# Altium schematic symbol library Schlib1.SchLib: 390 symbols (part 4 of 5)
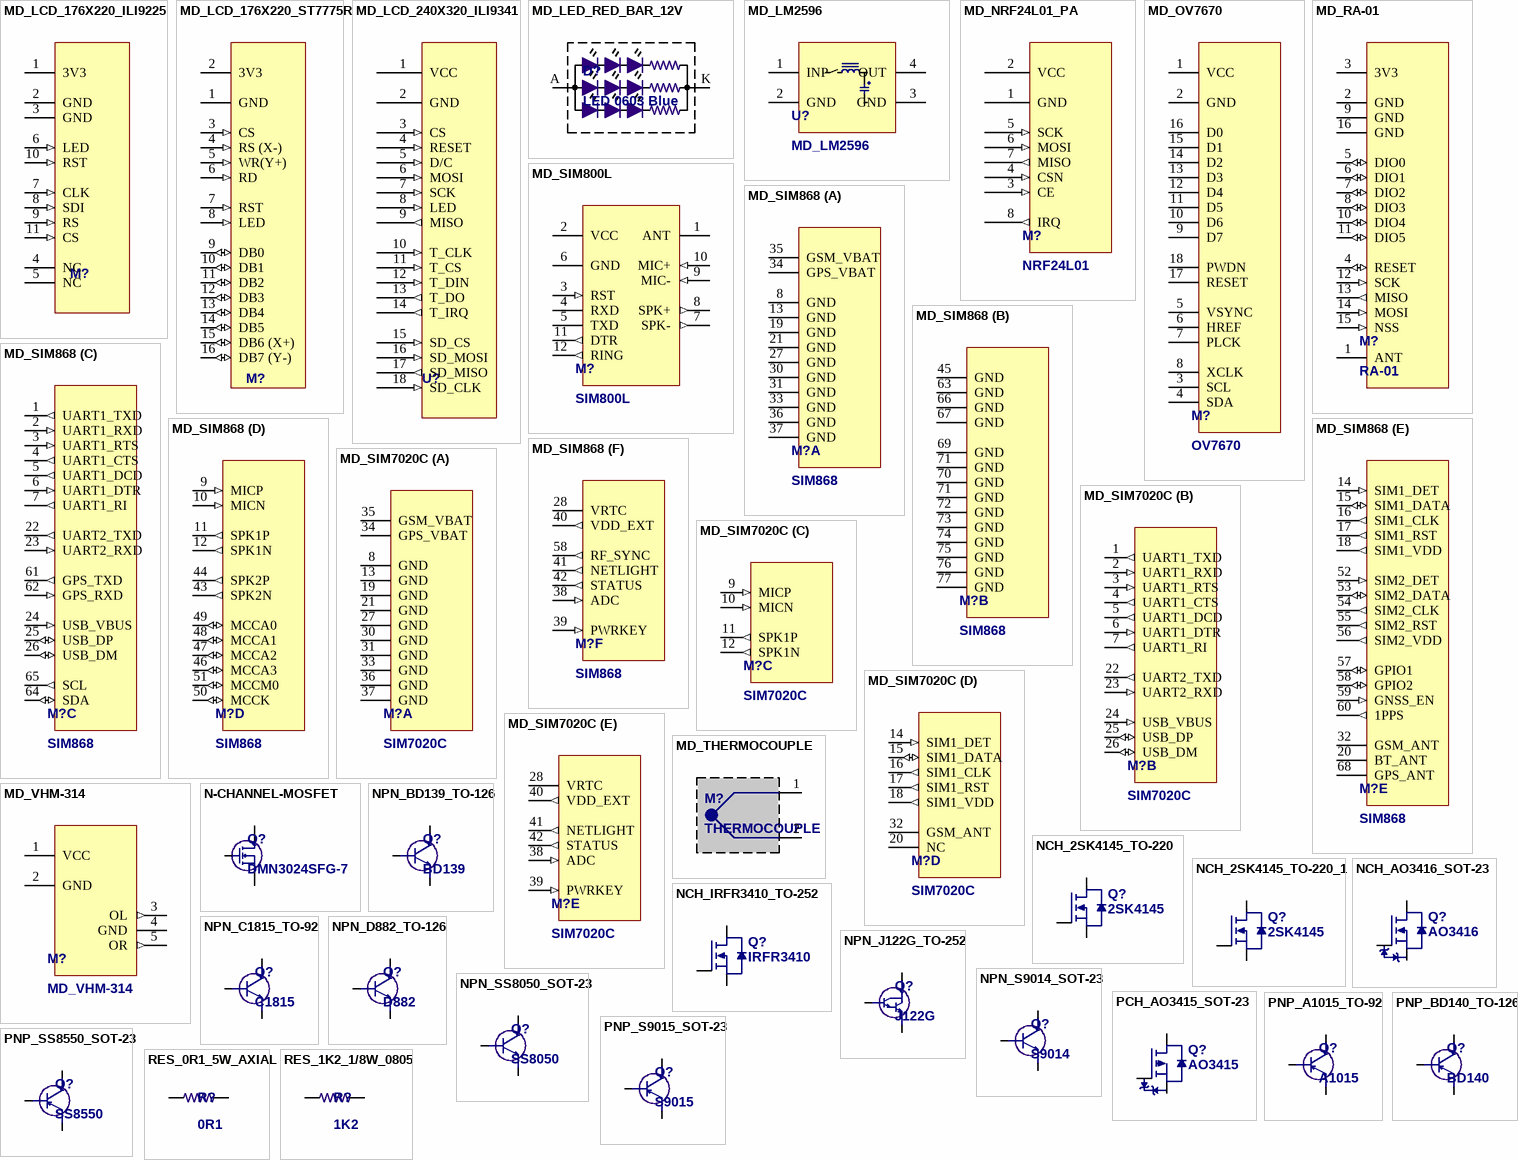
[diagram p13: symbols MD_LCD_176X220_ILI9225 to RES_1K2_1/8W_0805]

## MD_SIM868
designator M?, comment SIM868
Module SIM, SIM800 Series, GPRS, GPS, BT using 3.3V power supply.; Container: PCB-MODULE_BOX; Temperature Range: -40 to +125 degC; Price: 3.47; Package: SMD; Stock: 0; Label: SIM; Manufacturer: https://item.taobao.com/item.htm?spm=a21n57.1.0.0.2340523cFrXhFh&id=593822271983&ns=1&abbucket=14#detail; ComponentLink1Description: Datasheet; ComponentLink1URL: E:\NEW_DATA\ELECTRONIC_DOCUMENT\DATASHEET\SIM868_Series_Hardware_Design_V1.07_2.pdf
footprint MD_SIM868
part A pins: 8 GND (power), 13 GND (power), 19 GND (power), 21 GND (power), 27 GND (power), 30 GND (power), 31 GND (power), 33 GND (power), 34 GPS_VBAT (power), 35 GSM_VBAT (power), 36 GND (power), 37 GND (power)
part B pins: 45 GND (power), 63 GND (power), 66 GND (power), 67 GND (power), 69 GND (power), 70 GND (power), 71 GND (power), 71 GND (power), 72 GND (power), 73 GND (power), 74 GND (power), 75 GND (power), 76 GND (power), 77 GND (power)
part C pins: 1 UART1_TXD (out), 2 UART1_RXD (in), 3 UART1_RTS (in), 4 UART1_CTS (out), 5 UART1_DCD (out), 6 UART1_DTR (in), 7 UART1_RI (out), 22 UART2_TXD (out), 23 UART2_RXD (in), 24 USB_VBUS (in), 25 USB_DP (io), 26 USB_DM (io), 61 GPS_TXD (out), 62 GPS_RXD (in), 64 SDA (io), 65 SCL (out)
part D pins: 9 MICP (in), 10 MICN (in), 11 SPK1P (out), 12 SPK1N (out), 43 SPK2N (out), 44 SPK2P (out), 46 MCCA3 (io), 47 MCCA2 (io), 48 MCCA1 (io), 49 MCCA0 (io), 50 MCCK (io), 51 MCCM0 (io)
part E pins: 14 SIM1_DET (in), 15 SIM1_DATA (io), 16 SIM1_CLK (out), 17 SIM1_RST (out), 18 SIM1_VDD (out), 20 BT_ANT, 32 GSM_ANT, 52 SIM2_DET (in), 53 SIM2_DATA (io), 54 SIM2_CLK (out), 55 SIM2_RST (out), 56 SIM2_VDD (out), 57 GPIO1 (io), 58 GPIO2 (io), 59 GNSS_EN (in), 60 1PPS (out), 68 GPS_ANT
part F pins: 28 VRTC (power), 38 ADC (in), 39 PWRKEY (in), 40 VDD_EXT (out), 41 NETLIGHT (out), 42 STATUS (out), 58 RF_SYNC (out)

## MD_SIM7020C
designator M?, comment SIM7020C
Module SIM NB-IoT, SIM7020C Series, using 3.3V power supply.; Container: PCB-MODULE_BOX; Temperature Range: -40 to +125 degC; Price: 3.77; Package: SMD; Stock: 0; Label: SIM7020C; Manufacturer: https://item.taobao.com/item.htm?spm=a1z10.3-c-s.w4002-23047171155.10.5cf35989DLIjEr&id=633896990304; ComponentLink1Description: Datasheet; ComponentLink1URL: E:\NEW_DATA\ELECTRONIC_DOCUMENT\DATASHEET\SIM7020 Hardware Design_V1.02.pdf
footprint MD_SIM7020C
part A pins: 8 GND (power), 13 GND (power), 19 GND (power), 21 GND (power), 27 GND (power), 30 GND (power), 31 GND (power), 33 GND (power), 34 GPS_VBAT (power), 35 GSM_VBAT (power), 36 GND (power), 37 GND (power)
part B pins: 1 UART1_TXD (out), 2 UART1_RXD (in), 3 UART1_RTS (in), 4 UART1_CTS (out), 5 UART1_DCD (out), 6 UART1_DTR (in), 7 UART1_RI (out), 22 UART2_TXD (out), 23 UART2_RXD (in), 24 USB_VBUS (in), 25 USB_DP (io), 26 USB_DM (io)
part C pins: 9 MICP (in), 10 MICN (in), 11 SPK1P (out), 12 SPK1N (out)
part D pins: 14 SIM1_DET (in), 15 SIM1_DATA (io), 16 SIM1_CLK (out), 17 SIM1_RST (out), 18 SIM1_VDD (out), 20 NC, 32 GSM_ANT
part E pins: 28 VRTC (power), 38 ADC (in), 39 PWRKEY (in), 40 VDD_EXT (out), 41 NETLIGHT (out), 42 STATUS (out)

## MD_THERMOCOUPLE
designator M?, comment THERMOCOUPLE
Type K Thermocouple; Container: Bus_Wire_Box; Label: XH2.54; Price: 0.009; Package: TH; Stock: 14; Manufacturer: https://shopee.vn/%C4%90%E1%BA%A7u-n%E1%BB%91i-XH2.54-%C4%90%E1%BB%B1c-C%C3%A1i-C%C3%A1c-Lo%E1%BA%A1i-Header-XH2.54-lo%E1%BA%A1i-%C4%91%E1%BB%B1c-th%E1%BA%B3ng-i.151571719.3589152280?sp_atk=5406bfb8-bf62-463e-a06d-2acb89645f90&xptdk=5406bfb8-bf62-463e-a06d-2acb89645f90; Temperature Range: -25 to +85 degC
footprint Header 2P (CON2)
pins: 1, 2

## MD_VHM-314
designator M?
VHM-314 V2.0 V3.0 DIY Bluetooth Audio Receiver 4.1 5.0 MP3 Lossless Decoder; Container: PCB-MODULE_BOX; Package: TH; Stock: 0; Label: VHM-314; Manufacturer: https://shopee.vn/B%E1%BA%A3ng-M%E1%BA%A1ch-Nh%E1%BA%ADn-T%C3%ADn-Hi%E1%BB%87u-Bluetooth-5.0-mp3-VHM-314-i.471591389.19455524827?sp_atk=c1f9e1e3-bfa8-4392-b9bf-d9493af7f0ff&xptdk=c1f9e1e3-bfa8-4392-b9bf-d9493af7f0ff; Temperature Range: -25 to +85 degC; Price: 0.78
footprint VHM-314-M
pins: 1 VCC (power), 2 GND (power), 3 OL (out), 4 GND (power), 5 OR (out)

## N-CHANNEL-MOSFET
designator Q?, comment DMN3024SFG-7
N-Channel 30 V 7.5A (Ta) 900mW (Ta) Surface Mount PowerDI3333-8; Price: 0.009; Package: TH
footprint SOT23(123)
footprint SOT23(132)
footprint TO252
footprint TO252AA
pins: 1 G, 2 D, 3 S

## NCH_2SK4145_TO-220
designator Q?, comment 2SK4145
N-CHANNEL POWER MOSFET, Vds=60V, Id=84A, Rds=7m; Container: Transistors_Box; Label: N-CH; Price: 0.15; Package: SMD; Stock: 0; Manufacturer: https://item.taobao.com/item.htm?spm=a1z10.3-c-s.w4002-21047669632.10.3f9827e5NgGYbt&id=523832631224; Temperature Range: -55 to +170 degC; ComponentLink1Description: Datasheet; ComponentLink1URL: E:\NEW_DATA\ELECTRONIC_DOCUMENT\DATASHEET\K4145_NEC.pdf
pins: 1 G, 2 D, 3 S

## NCH_2SK4145_TO-220_1
designator Q?, comment 2SK4145
N-CHANNEL POWER MOSFET, Vds=60V, Id=84A, Rds=7m; Container: Transistors_Box; Label: N-CH; Price: 0.15; Package: SMD; Stock: 0; Manufacturer: https://item.taobao.com/item.htm?spm=a1z10.3-c-s.w4002-21047669632.10.3f9827e5NgGYbt&id=523832631224; Temperature Range: -55 to +170 degC; ComponentLink1Description: Datasheet; ComponentLink1URL: E:\NEW_DATA\ELECTRONIC_DOCUMENT\DATASHEET\K4145_NEC.pdf
pins: 1 G, 2 D, 3 S

## NCH_AO3416_SOT-23
designator Q?, comment AO3416
20V N-Channel MOSFET, Vds=20V, Id=6.5A, Rds=22m; Container: Transistors_Box; Label: N-CH; Price: 0.01; Package: SMD; Stock: 98; Manufacturer: https://shopee.vn/B%E1%BB%99-50-Linh-Ki%E1%BB%87n-%C4%90i%E1%BB%87n-T%E1%BB%AD-AO3400-AO3401-AO3402-AO3404-AO3406-AO3407-AO3415-AO3416-SOT23-i.778834786.17075451148?sp_atk=24d14775-b313-4f94-857d-9252dcf0cfe8&xptdk=24d14775-b313-4f94-857d-9252dcf0cfe8; Temperature Range: -55 to +150 degC; ComponentLink1Description: Datasheet; ComponentLink1URL: E:\NEW_DATA\ELECTRONIC_DOCUMENT\DATASHEET\ao3416.pdf
footprint SOT23(123)
pins: 1 G, 2 D, 3 S

## NCH_IRFR3410_TO-252
designator Q?, comment IRFR3410
HEXFET  Power MOSFET, Vds=100V, Id=31A, Rds=34m; Container: Transistors_Box; Label: N-CH; Price: 0.15; Package: SMD; Stock: 0; Manufacturer: https://item.taobao.com/item.htm?spm=a1z10.3-c-s.w4002-21047669632.10.3f9827e5NgGYbt&id=523832631224; Temperature Range: -55 to +170 degC; ComponentLink1Description: Datasheet; ComponentLink1URL: E:\NEW_DATA\ELECTRONIC_DOCUMENT\DATASHEET\Infineon-IRFR3410-DataSheet-v01_01-EN.pdf
footprint TO252
footprint TO252AA
simulation model FQD19N10L ($)
pins: 1 G, 2 D, 3 S

## NPN_BD139_TO-126
designator Q?, comment BD139
Complementary low voltage transistor, Vcb=80V, Ic=1.5A; Label: NPN; Container: Transistors_Box; ComponentLink1Description: Datasheet; ComponentLink1URL: E:\NEW_DATA\ELECTRONIC_DOCUMENT\DATASHEET\BD139-D.pdf; Package: TH; Manufacturer: https://shopee.vn/B%E1%BB%99-50-linh-ki%E1%BB%87n-%C4%91i%E1%BB%87n-t%E1%BB%AD-NPN-bd139-to-126-i.101758806.1644689850; Price: 0.04; Stock: 40; Temperature Range: -55 to +150 degC
footprint TO126
footprint TO126-10
footprint TO126-11
footprint TO126-RA400
footprint TO126-RA500
footprint TO126-RA600
footprint TO126-RB375
footprint TO126-RB400
footprint TO126-RB500
footprint TO126-RB600
simulation model QBD139 (Model Description)
pins: 1 E, 2 C, 3 B

## NPN_C1815_TO-92
designator Q?, comment C1815
Audio Frequency Amplifier & High / Frequency OSC, Vcb=50V, Ic=150mA; Container: Transistors_Box; Label: NPN; Price: 0.009; Package: TH; Stock: 200; Manufacturer: https://shopee.vn/1000-Linh-Ki%E1%BB%87n-B%C3%A1n-D%E1%BA%ABn-Ch%C3%ADnh-H%C3%A3ng-C1815-2sc1815-To-92-0.15a-50v-Npn-i.92401456.6403649540; Temperature Range: -55 to +125 degC; ComponentLink1Description: Datasheet; ComponentLink1URL: E:\NEW_DATA\ELECTRONIC_DOCUMENT\DATASHEET\C1815.pdf
footprint TO92DD
footprint TO92CD
footprint TO92C-hor1 Top
footprint TO92A
footprint TO92-Hor 2top 1.27a
footprint TO92-Hor 2top 1.27
footprint TO92-Hor1 top 1.27
footprint TO92-Hor2 butom 1.27
footprint TO92-Hor1 butom 1.27
footprint TO92-D 1.27
footprint TO92-D
simulation model KSC1815 (Model Description)
pins: 1 B, 2 C, 3 E

## NPN_D882_TO-126
designator Q?, comment D882
NPN medium power transistor, Vcb=60V, Ic=3A; Container: Transistors_Box; Price: 0.06; Package: TH; Stock: 3; Label: NPN; Manufacturer: https://shopee.vn/20-linh-ki%E1%BB%87n-b%C3%A1n-d%E1%BA%ABn-D882-2sd882-3A-40V-To-126-Npn-i.354017206.12311653985?sp_atk=5388631d-19db-40fd-98d1-7eb3d70c26d8&xptdk=5388631d-19db-40fd-98d1-7eb3d70c26d8; Temperature Range: -65 to +150 degC; ComponentLink1Description: Datasheet; ComponentLink1URL: E:\NEW_DATA\ELECTRONIC_DOCUMENT\DATASHEET\2sd882.pdf
footprint TO126
footprint TO126-10
footprint TO126-11
footprint TO126-RA400
footprint TO126-RA500
footprint TO126-RA600
footprint TO126-RB375
footprint TO126-RB400
footprint TO126-RB500
footprint TO126-RB600
simulation model Q2SD882 ($)
pins: 1 E, 2 C, 3 B

## NPN_J122G_TO-252
designator Q?, comment J122G
Complementary Darlington Power Transistor, Vcb=100V, Ic=16A, hFE=12,000; Container: Transistors_Box; Label: NPN; Price: 0.12; Package: SMD; Stock: 1; Manufacturer: https://shopee.vn/B%E1%BB%99-10-Linh-Ki%E1%BB%87n-%C4%90i%E1%BB%87n-T%E1%BB%AD-MJD122G-J122G-MJD127T4G-J127G-Mjx32C-J32C-J32CG-MJD41CG-J41CG-44H11G-4H11G-45H11G-5H11G-MJD47T4G-MJD47-TO-252-i.354017206.20270425494?sp_atk=b4ba54b6-78ea-4baa-851a-903777ead9a3&xptdk=b4ba54b6-78ea-4baa-851a-903777ead9a3; Temperature Range: -65 to +150 degC; ComponentLink1Description: Datasheet; ComponentLink1URL: E:\NEW_DATA\ELECTRONIC_DOCUMENT\DATASHEET\MJD122-D.pdf
footprint TO252AA
footprint TO252
simulation model MJD122 ($)
pins: 1 B, 2 C, 3 E

## NPN_S9014_SOT-23
designator Q?, comment S9014
NPN Transistor, Vcb=50V, Ic=0.1A, J6; Container: Transistors_Box; Price: 0.004; Package: SMD; Stock: 100; Label: NPN; Manufacturer: https://shopee.vn/B%E1%BB%99-100-M%E1%BA%A1ch-%C4%90i%E1%BB%87n-SS8050-Y1-SS8550-Y2-S8050-J3Y-S8550-2TY-S9012-S9013-S9014-S9015-S9018-TL431-XC6206P332MR-SOT23-XC6206P332-i.778834786.17075451311; Temperature Range: -55 to +150 degC; ComponentLink1Description: Datasheet; ComponentLink1URL: E:\NEW_DATA\ELECTRONIC_DOCUMENT\DATASHEET\S9014-SOT-23.pdf
footprint SOT23(123)
simulation model SS9014 ($)
pins: 1 B, 2 C, 3 E

## NPN_SS8050_SOT-23
designator Q?, comment SS8050
NPN Silicon Epitaxial Planar Transistor, Vcb=40V, Ic=1.5A, Y1; Container: Transistors_Box; Price: 0.005; Package: SMD; Stock: 87; Label: NPN; Manufacturer: https://shopee.vn/B%E1%BB%99-100-M%E1%BA%A1ch-%C4%90i%E1%BB%87n-SS8050-Y1-SS8550-Y2-S8050-J3Y-S8550-2TY-S9012-S9013-S9014-S9015-S9018-TL431-XC6206P332MR-SOT23-XC6206P332-i.778834786.17075451311; Temperature Range: -55 to +150 degC; ComponentLink1Description: Datasheet; ComponentLink1URL: E:\NEW_DATA\ELECTRONIC_DOCUMENT\DATASHEET\1912111437_Galaxy-SS8050G-Y1_C380930.pdf
footprint SOT23(123)
simulation model SS8050 (Creation: Jan-27-2005)
pins: 1 B, 2 C, 3 E

## PCH_AO3415_SOT-23
designator Q?, comment AO3415
20V P-Channel MOSFET, Vds=-20V, Id=-4A, Rds=53m; Container: Transistors_Box; Label: P-CH; Price: 0.015; Package: SMD; Stock: 98; Manufacturer: https://shopee.vn/B%E1%BB%99-50-Linh-Ki%E1%BB%87n-%C4%90i%E1%BB%87n-T%E1%BB%AD-AO3400-AO3401-AO3402-AO3404-AO3406-AO3407-AO3415-AO3416-SOT23-i.778834786.17075451148?sp_atk=24d14775-b313-4f94-857d-9252dcf0cfe8&xptdk=24d14775-b313-4f94-857d-9252dcf0cfe8; Temperature Range: -55 to +150 degC; ComponentLink1Description: Datasheet; ComponentLink1URL: E:\NEW_DATA\ELECTRONIC_DOCUMENT\DATASHEET\ao3416.pdf
footprint SOT23(123)
pins: 1 G, 2 D, 3 S

## PNP_A1015_TO-92
designator Q?, comment A1015
PNP Plastic-Encapsulated Transistor, Vcb=-50V, Ic=-150mA; Container: Transistors_Box; Price: 0.007; Package: TH; Stock: 80; Label: PNP; Manufacturer: https://shopee.vn/Set-1000-%C4%91i%E1%BB%87n-tr%E1%BB%9F-A1015-2SA1015-TO-92-0.15A-50V-PNP-i.92401456.6103650085?sp_atk=88c17430-f243-454e-a624-a13ea4975f22&xptdk=88c17430-f243-454e-a624-a13ea4975f22; Temperature Range: -55 to +125 degC; ComponentLink1Description: Datasheet; ComponentLink1URL: E:\NEW_DATA\ELECTRONIC_DOCUMENT\DATASHEET\A1015.pdf
footprint TO92DD
footprint TO92CD
footprint TO92C-hor1 Top
footprint TO92A
footprint TO92-Hor 2top 1.27a
footprint TO92-Hor 2top 1.27
footprint TO92-Hor1 top 1.27
footprint TO92-Hor2 butom 1.27
footprint TO92-Hor1 butom 1.27
footprint TO92-D 1.27
footprint TO92-D
simulation model KSA1015 (------------------------------------------------------------------------)
pins: 1 B, 2 C, 3 E

## PNP_BD140_TO-126
designator Q?, comment BD140
Plastic Medium-Power Silicon PNP Transistors, Vcb=-45V, Ic=-1.5A; Container: Transistors_Box; Package: TH; Stock: 48; Label: PNP; Manufacturer: https://shopee.vn/B%E1%BB%99-50-linh-ki%E1%BB%87n-%C4%91i%E1%BB%87n-t%E1%BB%AD-NPN-bd139-to-126-i.101758806.1644689850; Temperature Range: -55 to +150 degC; ComponentLink1Description: Datasheet; ComponentLink1URL: E:\NEW_DATA\ELECTRONIC_DOCUMENT\DATASHEET\BD139-D.pdf; Price: 0.03
footprint TO126
footprint TO126-10
footprint TO126-11
footprint TO126-RA400
footprint TO126-RA500
footprint TO126-RA600
footprint TO126-RB375
footprint TO126-RB400
footprint TO126-RB500
footprint TO126-RB600
simulation model QBD140 (------------------------------------------------------)
pins: 1 E, 2 C, 3 B

## PNP_S9015_SOT-23
designator Q?, comment S9015
PNP Transistor, Vcb=-50V, Ic=-0.1A, M6; Container: Transistors_Box; Price: 0.005; Package: SMD; Stock: 100; Label: PNP; Manufacturer: https://shopee.vn/B%E1%BB%99-100-M%E1%BA%A1ch-%C4%90i%E1%BB%87n-SS8050-Y1-SS8550-Y2-S8050-J3Y-S8550-2TY-S9012-S9013-S9014-S9015-S9018-TL431-XC6206P332MR-SOT23-XC6206P332-i.778834786.17075451311; Temperature Range: -55 to +150 degC; ComponentLink1Description: Datasheet; ComponentLink1URL: E:\NEW_DATA\ELECTRONIC_DOCUMENT\DATASHEET\S9015-SOT-23-.pdf
footprint SOT23(123)
simulation model SS9012 (---------------------------------------------------------------)
pins: 1 B, 2 C, 3 E

## PNP_SS8550_SOT-23
designator Q?, comment SS8550
PNP Silicon General Purpose Transistor, Vcb=-40V, Ic=-1.5A, Y2; Container: Transistors_Box; Price: 0.006; Package: SMD; Stock: 100; Label: PNP; Manufacturer: https://shopee.vn/B%E1%BB%99-100-M%E1%BA%A1ch-%C4%90i%E1%BB%87n-SS8050-Y1-SS8550-Y2-S8050-J3Y-S8550-2TY-S9012-S9013-S9014-S9015-S9018-TL431-XC6206P332MR-SOT23-XC6206P332-i.778834786.17075451311; Temperature Range: -55 to +150 degC; ComponentLink1Description: Datasheet; ComponentLink1URL: E:\NEW_DATA\ELECTRONIC_DOCUMENT\DATASHEET\SS8550.pdf
footprint SOT23(123)
simulation model SS8550 (FEB-01-2002 CREATION)
pins: 1 B, 2 C, 3 E

## RES_0R1_5W_AXIAL
designator R?, comment 0R1
Cement Fixed Resistors Axial Leaded; Container: Resistors_TH_Box; Label: 0R1_5W; Value: 0.1; Price: 0.08; Package: TH; Stock: 4; Manufacturer: https://shopee.vn/%C4%90i%E1%BB%87n-tr%E1%BB%9F-s%E1%BB%A9-5W-5-b%E1%BB%99-5-con-c%C3%A1c-lo%E1%BA%A1i-0.1R-100K-i.101915397.11507078815; Temperature Range: -55 to +155 degC; ComponentLink1Description: Datasheet; ComponentLink1URL: E:\NEW_DATA\ELECTRONIC_DOCUMENT\DATASHEET\3178893.pdf
simulation model RESISTOR (Resistor)
signal-integrity model Res
footprint RES_0R1_5W_AXIAL_1000MIL (R5W , 2 pin, 400 x 950mil)
pins: 1, 2

## RES_1K2_1/8W_0805
designator R?, comment 1K2
Chip Resistor Surface Mount, 0.125W, Vmax 150V; Container: Resistors_Box; Label: 0805_Pack; Price: 0.003; Package: SMD; Stock: 50; Manufacturer: https://shopee.vn/Set-100con-%C4%90I%E1%BB%86N-TR%E1%BB%9E-D%C3%81N-0805-c%C3%A1c-lo%E1%BA%A1i-t%E1%BB%AB-1K2-3K-5K6-6K8-...820K-1M-i.633971954.15028739620; Temperature Range: -55 to +155 degC; ComponentLink1Description: Datasheet; ComponentLink1URL: E:\NEW_DATA\ELECTRONIC_DOCUMENT\DATASHEET\RC0805.pdf; Value: 1K2
simulation model RESISTOR (Resistor)
signal-integrity model Res
footprint RES_1K2_SMD_0805
pins: 1, 2

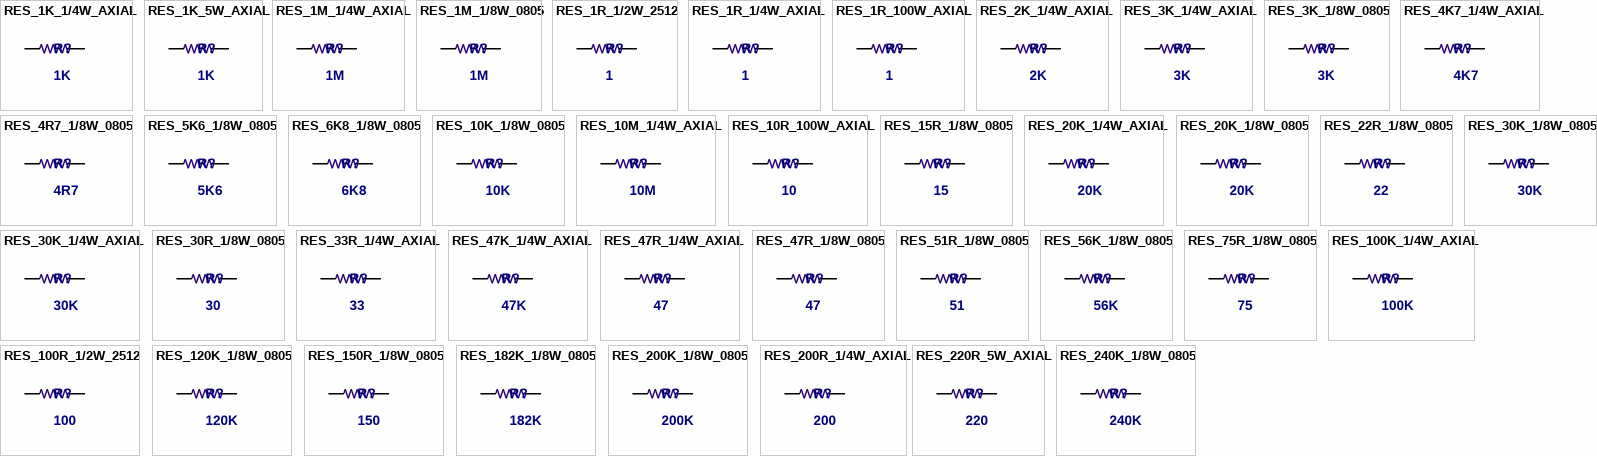
[diagram p8: symbols RES_1K_1/4W_AXIAL to RES_240K_1/8W_0805]

## RES_1K_1/4W_AXIAL
designator R?, comment 1K
Carbon Film Leaded Resistor, 0.25W, Vmax 250V; Container: Resistors_TH_Box; Label: 1K - 1%; Price: 0.002; Package: TH; Stock: 100; Manufacturer: https://shopee.vn/Electronic-Components-i.92401456.3956581505; Temperature Range: -55 to +155 degC; ComponentLink1Description: Datasheet; ComponentLink1URL: E:\NEW_DATA\ELECTRONIC_DOCUMENT\DATASHEET\7ec977c91977fd4e95a020bd86d6d6c5.pdf; Value: 1K
simulation model RESISTOR (Resistor)
signal-integrity model Res
footprint RES_1K_0.25_AXIAL_100MIL (R 1/4W, 2 Pin)
footprint RES_1K_0.25_AXIAL_200MIL (R 1/4W, 2 Pin, 200mil)
footprint RES_1K_0.25_AXIAL_300MIL (R 1/4W, 2 Pin, 300mil)
pins: 1, 2

## RES_1K_5W_AXIAL
designator R?, comment 1K
Cement Fixed Resistors Axial Leaded; Container: Resistors_TH_Box; Label: 1K_5W; Value: 0.1; Price: 0.08; Package: TH; Stock: 3; Manufacturer: https://shopee.vn/%C4%90i%E1%BB%87n-tr%E1%BB%9F-s%E1%BB%A9-5W-5-b%E1%BB%99-5-con-c%C3%A1c-lo%E1%BA%A1i-0.1R-100K-i.101915397.11507078815; Temperature Range: -55 to +155 degC; ComponentLink1Description: Datasheet; ComponentLink1URL: E:\NEW_DATA\ELECTRONIC_DOCUMENT\DATASHEET\3178893.pdf
simulation model RESISTOR (Resistor)
signal-integrity model Res
footprint RES_1K_5W_AXIAL_1000MIL (R5W , 2 pin, 400 x 950mil)
pins: 1, 2

## RES_1M_1/4W_AXIAL
designator R?, comment 1M
Carbon Film Leaded Resistor, 0.25W, Vmax 250V; Container: Resistors_TH_Box; Label: 1M - 5%; Price: 0.002; Package: TH; Stock: 70; Manufacturer: https://shopee.vn/Electronic-Components-i.92401456.3956581505; Temperature Range: -55 to +155 degC; ComponentLink1Description: Datasheet; ComponentLink1URL: E:\NEW_DATA\ELECTRONIC_DOCUMENT\DATASHEET\7ec977c91977fd4e95a020bd86d6d6c5.pdf; Value: 1M
simulation model RESISTOR (Resistor)
signal-integrity model Res
footprint RES_1M_0.25_AXIAL_100MIL (R 1/4W, 2 Pin)
footprint RES_1M_0.25_AXIAL_200MIL (R 1/4W, 2 Pin, 200mil)
footprint RES_1M_0.25_AXIAL_300MIL (R 1/4W, 2 Pin, 300mil)
pins: 1, 2

## RES_1M_1/8W_0805
designator R?, comment 1M
Chip Resistor Surface Mount, 0.125W, Vmax 150V; Container: Resistors_Box; Label: 0805_Pack; Price: 0.003; Package: SMD; Stock: 97; Manufacturer: https://shopee.vn/Set-100con-%C4%90I%E1%BB%86N-TR%E1%BB%9E-D%C3%81N-0805-c%C3%A1c-lo%E1%BA%A1i-t%E1%BB%AB-1K2-3K-5K6-6K8-...820K-1M-i.633971954.15028739620; Temperature Range: -55 to +155 degC; ComponentLink1Description: Datasheet; ComponentLink1URL: E:\NEW_DATA\ELECTRONIC_DOCUMENT\DATASHEET\RC0805.pdf; Value: 1M
simulation model RESISTOR (Resistor)
signal-integrity model Res
footprint RES_1M_SMD_0805
pins: 1, 2

## RES_1R_1/2W_2512
designator R?, comment 1
2512 Thick Film Chip Resistor, 0.5W, Vmax 200V; Container: Resistors_Box; Label: 2512-1R 5%; Price: 0.003; Package: SMD; Stock: 37; Manufacturer: https://shopee.vn/Set-50-chip-%C4%90i%E1%BB%87n-T%E1%BB%AD-2512-SMD-5-1W-0.1R-0.01R-0.05R-0.001R-0.33R-1R-0R-10R-100R-2W-0.001-0.01-0.13-0.05-1-0-10-100-ohm-i.778834786.21104749216; Temperature Range: -55 to +155 degC; ComponentLink1Description: Datasheet; ComponentLink1URL: E:\NEW_DATA\ELECTRONIC_DOCUMENT\DATASHEET\2512std.pdf; Value: 1
simulation model RESISTOR (Resistor)
signal-integrity model Res
footprint RES_1_SMD_2512 (Chip Capacitor, Body 3.2x2.5mm, IPC Medium Density)
pins: 1, 2

## RES_1R_1/4W_AXIAL
designator R?, comment 1
Carbon Film Leaded Resistor, 0.25W, Vmax 250V; Container: Resistors_TH_Box; Label: 1 - 5%; Price: 0.002; Package: TH; Stock: 70; Manufacturer: https://shopee.vn/Electronic-Components-i.92401456.3956581505; Temperature Range: -55 to +155 degC; ComponentLink1Description: Datasheet; ComponentLink1URL: E:\NEW_DATA\ELECTRONIC_DOCUMENT\DATASHEET\7ec977c91977fd4e95a020bd86d6d6c5.pdf; Value: 1
simulation model RESISTOR (Resistor)
signal-integrity model Res
footprint RES_1_0.25_AXIAL_100MIL (R 1/4W, 2 Pin)
footprint RES_1_0.25_AXIAL_200MIL (R 1/4W, 2 Pin, 200mil)
footprint RES_1_0.25_AXIAL_300MIL (R 1/4W, 2 Pin, 300mil)
pins: 1, 2

## RES_1R_100W_AXIAL
designator R?, comment 1
Wirewound Resistors, Industrial Power, Aluminum Housed; Container: Resistors_Box; Label: RES_100W; Price: 1; Package: TH; Stock: 1; Manufacturer: https://shopee.vn/%C4%90i%E1%BB%87n-Tr%E1%BB%9F-Kim-Lo%E1%BA%A1i-Nh%C3%B4m-RX24-50W-100W-1R-2R-4R-5K-6R-8R-10K-15K-20K-ohm-Chuy%C3%AAn-D%E1%BB%A5ng-i.762880341.19304461842?sp_atk=ff9f15e8-99ba-43d7-a4f3-607dcad173d0&xptdk=ff9f15e8-99ba-43d7-a4f3-607dcad173d0; Temperature Range: -55 to +155 degC; ComponentLink1Description: Datasheet; ComponentLink1URL: E:\NEW_DATA\ELECTRONIC_DOCUMENT\DATASHEET\2047297.pdf; Value: 1
simulation model RESISTOR (Resistor)
signal-integrity model Res
pins: 1, 2

## RES_2K_1/4W_AXIAL
designator R?, comment 2K
Carbon Film Leaded Resistor, 0.25W, Vmax 250V; Container: Resistors_TH_Box; Label: 2K - 5%; Price: 0.002; Package: TH; Stock: 250; Manufacturer: https://shopee.vn/Electronic-Components-i.92401456.3956581505; Temperature Range: -55 to +155 degC; ComponentLink1Description: Datasheet; ComponentLink1URL: E:\NEW_DATA\ELECTRONIC_DOCUMENT\DATASHEET\7ec977c91977fd4e95a020bd86d6d6c5.pdf; Value: 2K
simulation model RESISTOR (Resistor)
signal-integrity model Res
footprint RES_2K_0.25_AXIAL_100MIL (R 1/4W, 2 Pin)
footprint RES_2K_0.25_AXIAL_200MIL (R 1/4W, 2 Pin, 200mil)
footprint RES_2K_0.25_AXIAL_300MIL (R 1/4W, 2 Pin, 300mil)
pins: 1, 2

## RES_3K_1/4W_AXIAL
designator R?, comment 3K
Carbon Film Leaded Resistor, 0.25W, Vmax 250V; Container: Resistors_TH_Box; Label: 3K - 5%; Price: 0.002; Package: TH; Stock: 16; Manufacturer: https://shopee.vn/Electronic-Components-i.92401456.3956581505; Temperature Range: -55 to +155 degC; ComponentLink1Description: Datasheet; ComponentLink1URL: E:\NEW_DATA\ELECTRONIC_DOCUMENT\DATASHEET\7ec977c91977fd4e95a020bd86d6d6c5.pdf; Value: 3K
simulation model RESISTOR (Resistor)
signal-integrity model Res
footprint RES_3K_0.25_AXIAL_100MIL (R 1/4W, 2 Pin)
footprint RES_3K_0.25_AXIAL_200MIL (R 1/4W, 2 Pin, 200mil)
footprint RES_3K_0.25_AXIAL_300MIL (R 1/4W, 2 Pin, 300mil)
pins: 1, 2

## RES_3K_1/8W_0805
designator R?, comment 3K
Chip Resistor Surface Mount, 0.125W, Vmax 150V; Container: Resistors_Box; Label: 0805_Pack; Price: 0.003; Package: SMD; Stock: 78; Manufacturer: https://shopee.vn/Set-100con-%C4%90I%E1%BB%86N-TR%E1%BB%9E-D%C3%81N-0805-c%C3%A1c-lo%E1%BA%A1i-t%E1%BB%AB-1K2-3K-5K6-6K8-...820K-1M-i.633971954.15028739620; Temperature Range: -55 to +155 degC; ComponentLink1Description: Datasheet; ComponentLink1URL: E:\NEW_DATA\ELECTRONIC_DOCUMENT\DATASHEET\RC0805.pdf; Value: 3K
simulation model RESISTOR (Resistor)
signal-integrity model Res
footprint RES_3K_SMD_0805
pins: 1, 2

## RES_4K7_1/4W_AXIAL
designator R?, comment 4K7
Carbon Film Leaded Resistor, 0.25W, Vmax 250V; Container: Resistors_TH_Box; Label: 4K7 - 5%; Price: 0.002; Package: TH; Stock: 29; Manufacturer: https://shopee.vn/Electronic-Components-i.92401456.3956581505; Temperature Range: -55 to +155 degC; ComponentLink1Description: Datasheet; ComponentLink1URL: E:\NEW_DATA\ELECTRONIC_DOCUMENT\DATASHEET\7ec977c91977fd4e95a020bd86d6d6c5.pdf; Value: 4K7
simulation model RESISTOR (Resistor)
signal-integrity model Res
footprint RES_47K_0.25_AXIAL_300MIL (R 1/4W, 2 Pin, 300mil)
footprint RES_47K_0.25_AXIAL_200MIL (R 1/4W, 2 Pin, 200mil)
footprint RES_47K_0.25_AXIAL_100MIL (R 1/4W, 2 Pin)
pins: 1, 2

## RES_4R7_1/8W_0805
designator R?, comment 4R7
Chip Resistor Surface Mount, 0.125W, Vmax 150V; Container: Resistors_Box; Label: 0805_Pack; Price: 0.003; Package: SMD; Stock: 84; Manufacturer: https://shopee.vn/Set-100con-%C4%90I%E1%BB%86N-TR%E1%BB%9E-D%C3%81N-0805-c%C3%A1c-lo%E1%BA%A1i-t%E1%BB%AB-2-OHM-7-3-OHM-9-4-OHM-7-6-OHM-8-8-OHM-2-12-OHM-...750-OHM-i.633971954.14528730832; Temperature Range: -55 to +155 degC; ComponentLink1Description: Datasheet; ComponentLink1URL: E:\NEW_DATA\ELECTRONIC_DOCUMENT\DATASHEET\RC0805.pdf; Value: 4R7
simulation model RESISTOR (Resistor)
signal-integrity model Res
footprint RES_4R7_SMD_0805
pins: 1, 2

## RES_5K6_1/8W_0805
designator R?, comment 5K6
Chip Resistor Surface Mount, 0.125W, Vmax 150V; Container: Resistors_Box; Label: 0805_Pack; Price: 0.003; Package: SMD; Stock: 40; Manufacturer: https://shopee.vn/Set-100con-%C4%90I%E1%BB%86N-TR%E1%BB%9E-D%C3%81N-0805-c%C3%A1c-lo%E1%BA%A1i-t%E1%BB%AB-1K2-3K-5K6-6K8-...820K-1M-i.633971954.15028739620; Temperature Range: -55 to +155 degC; ComponentLink1Description: Datasheet; ComponentLink1URL: E:\NEW_DATA\ELECTRONIC_DOCUMENT\DATASHEET\RC0805.pdf; Value: 5K6
simulation model RESISTOR (Resistor)
signal-integrity model Res
footprint RES_5K6_SMD_0805
pins: 1, 2

## RES_6K8_1/8W_0805
designator R?, comment 6K8
Chip Resistor Surface Mount, 0.125W, Vmax 150V; Container: Resistors_Box; Label: 0805_Pack; Price: 0.003; Package: SMD; Stock: 45; Manufacturer: https://shopee.vn/Set-100con-%C4%90I%E1%BB%86N-TR%E1%BB%9E-D%C3%81N-0805-c%C3%A1c-lo%E1%BA%A1i-t%E1%BB%AB-1K2-3K-5K6-6K8-...820K-1M-i.633971954.15028739620; Temperature Range: -55 to +155 degC; ComponentLink1Description: Datasheet; ComponentLink1URL: E:\NEW_DATA\ELECTRONIC_DOCUMENT\DATASHEET\RC0805.pdf; Value: 6K8
simulation model RESISTOR (Resistor)
signal-integrity model Res
footprint RES_6K8_SMD_0805
pins: 1, 2

## RES_10K_1/8W_0805
designator R?, comment 10K
Chip Resistor Surface Mount, 0.125W, Vmax 150V; Container: Resistors_Box; Label: 0805_Pack; Price: 0.003; Package: SMD; Stock: 19; Manufacturer: https://shopee.vn/Set-100con-%C4%90I%E1%BB%86N-TR%E1%BB%9E-D%C3%81N-0805-c%C3%A1c-lo%E1%BA%A1i-t%E1%BB%AB-1K2-3K-5K6-6K8-...820K-1M-i.633971954.15028739620; Temperature Range: -55 to +155 degC; ComponentLink1Description: Datasheet; ComponentLink1URL: E:\NEW_DATA\ELECTRONIC_DOCUMENT\DATASHEET\RC0805.pdf; Value: 10K
simulation model RESISTOR (Resistor)
signal-integrity model Res
footprint RES_10K_SMD_0805
pins: 1, 2

## RES_10M_1/4W_AXIAL
designator R?, comment 10M
Carbon Film Leaded Resistor, 0.25W, Vmax 250V; Container: Resistors_TH_Box; Label: 10M - 5%; Price: 0.002; Package: TH; Stock: 100; Manufacturer: https://shopee.vn/Electronic-Components-i.92401456.3956581505; Temperature Range: -55 to +155 degC; ComponentLink1Description: Datasheet; ComponentLink1URL: E:\NEW_DATA\ELECTRONIC_DOCUMENT\DATASHEET\7ec977c91977fd4e95a020bd86d6d6c5.pdf; Value: 10M
simulation model RESISTOR (Resistor)
signal-integrity model Res
footprint RES_10M_0.25_AXIAL_100MIL (R 1/4W, 2 Pin)
footprint RES_10M_0.25_AXIAL_200MIL (R 1/4W, 2 Pin, 200mil)
footprint RES_10M_0.25_AXIAL_300MIL (R 1/4W, 2 Pin, 300mil)
pins: 1, 2

## RES_10R_100W_AXIAL
designator R?, comment 10
Wirewound Resistors, Industrial Power, Aluminum Housed; Container: Resistors_Box; Label: RES_100W; Price: 1; Package: TH; Stock: 1; Manufacturer: https://shopee.vn/%C4%90i%E1%BB%87n-Tr%E1%BB%9F-Kim-Lo%E1%BA%A1i-Nh%C3%B4m-RX24-50W-100W-1R-2R-4R-5K-6R-8R-10K-15K-20K-ohm-Chuy%C3%AAn-D%E1%BB%A5ng-i.762880341.19304461842?sp_atk=ff9f15e8-99ba-43d7-a4f3-607dcad173d0&xptdk=ff9f15e8-99ba-43d7-a4f3-607dcad173d0; Temperature Range: -55 to +155 degC; ComponentLink1Description: Datasheet; ComponentLink1URL: E:\NEW_DATA\ELECTRONIC_DOCUMENT\DATASHEET\2047297.pdf; Value: 10
simulation model RESISTOR (Resistor)
signal-integrity model Res
pins: 1, 2

## RES_15R_1/8W_0805
designator R?, comment 15
Chip Resistor Surface Mount, 0.125W, Vmax 150V; Container: Resistors_Box; Label: 0805_Pack; Price: 0.003; Package: SMD; Stock: 99; Manufacturer: https://shopee.vn/Set-100con-%C4%90I%E1%BB%86N-TR%E1%BB%9E-D%C3%81N-0805-c%C3%A1c-lo%E1%BA%A1i-t%E1%BB%AB-2-OHM-7-3-OHM-9-4-OHM-7-6-OHM-8-8-OHM-2-12-OHM-...750-OHM-i.633971954.14528730832; Temperature Range: -55 to +155 degC; ComponentLink1Description: Datasheet; ComponentLink1URL: E:\NEW_DATA\ELECTRONIC_DOCUMENT\DATASHEET\RC0805.pdf; Value: 15
simulation model RESISTOR (Resistor)
signal-integrity model Res
footprint RES_15_SMD_0805
pins: 1, 2

## RES_20K_1/4W_AXIAL
designator R?, comment 20K
Carbon Film Leaded Resistor, 0.25W, Vmax 250V; Container: Resistors_TH_Box; Label: 20K - 5%; Price: 0.002; Package: TH; Stock: 150; Manufacturer: https://shopee.vn/Electronic-Components-i.92401456.3956581505; Temperature Range: -55 to +155 degC; ComponentLink1Description: Datasheet; ComponentLink1URL: E:\NEW_DATA\ELECTRONIC_DOCUMENT\DATASHEET\7ec977c91977fd4e95a020bd86d6d6c5.pdf; Value: 20K
simulation model RESISTOR (Resistor)
signal-integrity model Res
footprint RES_200_0.25_AXIAL_300MIL (R 1/4W, 2 Pin, 300mil)
footprint RES_200_0.25_AXIAL_200MIL (R 1/4W, 2 Pin, 200mil)
footprint RES_20K_0.25_AXIAL_100MIL (R 1/4W, 2 Pin)
pins: 1, 2

## RES_20K_1/8W_0805
designator R?, comment 20K
Chip Resistor Surface Mount, 0.125W, Vmax 150V; Container: Resistors_Box; Label: 0805_Pack; Price: 0.003; Package: SMD; Stock: 89; Manufacturer: https://shopee.vn/Set-100con-%C4%90I%E1%BB%86N-TR%E1%BB%9E-D%C3%81N-0805-c%C3%A1c-lo%E1%BA%A1i-t%E1%BB%AB-1K2-3K-5K6-6K8-...820K-1M-i.633971954.15028739620; Temperature Range: -55 to +155 degC; ComponentLink1Description: Datasheet; ComponentLink1URL: E:\NEW_DATA\ELECTRONIC_DOCUMENT\DATASHEET\RC0805.pdf; Value: 20K
simulation model RESISTOR (Resistor)
signal-integrity model Res
footprint RES_20K_SMD_0805
pins: 1, 2

## RES_22R_1/8W_0805
designator R?, comment 22
Chip Resistor Surface Mount, 0.125W, Vmax 150V; Container: Resistors_Box; Label: 0805_Pack; Price: 0.003; Package: SMD; Stock: 99; Manufacturer: https://shopee.vn/Set-100con-%C4%90I%E1%BB%86N-TR%E1%BB%9E-D%C3%81N-0805-c%C3%A1c-lo%E1%BA%A1i-t%E1%BB%AB-2-OHM-7-3-OHM-9-4-OHM-7-6-OHM-8-8-OHM-2-12-OHM-...750-OHM-i.633971954.14528730832; Temperature Range: -55 to +155 degC; ComponentLink1Description: Datasheet; ComponentLink1URL: E:\NEW_DATA\ELECTRONIC_DOCUMENT\DATASHEET\RC0805.pdf; Value: 22
simulation model RESISTOR (Resistor)
signal-integrity model Res
footprint RES_22_SMD_0805
pins: 1, 2

## RES_30K_1/4W_AXIAL
designator R?, comment 30K
Carbon Film Leaded Resistor, 0.25W, Vmax 250V; Container: Resistors_TH_Box; Label: 30K - 5%; Price: 0.002; Package: TH; Stock: 13; Manufacturer: https://shopee.vn/Electronic-Components-i.92401456.3956581505; Temperature Range: -55 to +155 degC; ComponentLink1Description: Datasheet; ComponentLink1URL: E:\NEW_DATA\ELECTRONIC_DOCUMENT\DATASHEET\7ec977c91977fd4e95a020bd86d6d6c5.pdf; Value: 30K
simulation model RESISTOR (Resistor)
signal-integrity model Res
footprint RES_30K_0.25_AXIAL_100MIL (R 1/4W, 2 Pin)
footprint RES_30K_0.25_AXIAL_200MIL (R 1/4W, 2 Pin, 200mil)
footprint RES_30K_0.25_AXIAL_300MIL (R 1/4W, 2 Pin, 300mil)
pins: 1, 2

## RES_30K_1/8W_0805
designator R?, comment 30K
Chip Resistor Surface Mount, 0.125W, Vmax 150V; Container: Resistors_Box; Label: 0805_Pack; Price: 0.003; Package: SMD; Stock: 88; Manufacturer: https://shopee.vn/Set-100con-%C4%90I%E1%BB%86N-TR%E1%BB%9E-D%C3%81N-0805-c%C3%A1c-lo%E1%BA%A1i-t%E1%BB%AB-1K2-3K-5K6-6K8-...820K-1M-i.633971954.15028739620; Temperature Range: -55 to +155 degC; ComponentLink1Description: Datasheet; ComponentLink1URL: E:\NEW_DATA\ELECTRONIC_DOCUMENT\DATASHEET\RC0805.pdf; Value: 30K
simulation model RESISTOR (Resistor)
signal-integrity model Res
footprint RES_30K_SMD_0805
pins: 1, 2

## RES_30R_1/8W_0805
designator R?, comment 30
Chip Resistor Surface Mount, 0.125W, Vmax 150V; Container: Resistors_Box; Label: 0805_Pack; Price: 0.003; Package: SMD; Stock: 100; Manufacturer: https://shopee.vn/Set-100con-%C4%90I%E1%BB%86N-TR%E1%BB%9E-D%C3%81N-0805-c%C3%A1c-lo%E1%BA%A1i-t%E1%BB%AB-2-OHM-7-3-OHM-9-4-OHM-7-6-OHM-8-8-OHM-2-12-OHM-...750-OHM-i.633971954.14528730832; Temperature Range: -55 to +155 degC; ComponentLink1Description: Datasheet; ComponentLink1URL: E:\NEW_DATA\ELECTRONIC_DOCUMENT\DATASHEET\RC0805.pdf; Value: 30
simulation model RESISTOR (Resistor)
signal-integrity model Res
footprint RES_30_SMD_0805
pins: 1, 2

## RES_33R_1/4W_AXIAL
designator R?, comment 33
Carbon Film Leaded Resistor, 0.25W, Vmax 250V; Container: Resistors_TH_Box; Label: 33 - 5%; Price: 0.002; Package: TH; Stock: 16; Manufacturer: https://shopee.vn/Electronic-Components-i.92401456.3956581505; Temperature Range: -55 to +155 degC; ComponentLink1Description: Datasheet; ComponentLink1URL: E:\NEW_DATA\ELECTRONIC_DOCUMENT\DATASHEET\7ec977c91977fd4e95a020bd86d6d6c5.pdf; Value: 33
simulation model RESISTOR (Resistor)
signal-integrity model Res
footprint RES_33_0.25_AXIAL_100MIL (R 1/4W, 2 Pin)
footprint RES_33_0.25_AXIAL_200MIL (R 1/4W, 2 Pin, 200mil)
footprint RES_33_0.25_AXIAL_300MIL (R 1/4W, 2 Pin, 300mil)
pins: 1, 2

## RES_47K_1/4W_AXIAL
designator R?, comment 47K
Carbon Film Leaded Resistor, 0.25W, Vmax 250V; Container: Resistors_TH_Box; Label: 47K - 5%; Price: 0.002; Package: TH; Stock: 13; Manufacturer: https://shopee.vn/Electronic-Components-i.92401456.3956581505; Temperature Range: -55 to +155 degC; ComponentLink1Description: Datasheet; ComponentLink1URL: E:\NEW_DATA\ELECTRONIC_DOCUMENT\DATASHEET\7ec977c91977fd4e95a020bd86d6d6c5.pdf; Value: 47K
simulation model RESISTOR (Resistor)
signal-integrity model Res
footprint RES_47K_0.25_AXIAL_300MIL (R 1/4W, 2 Pin, 300mil)
footprint RES_47K_0.25_AXIAL_200MIL (R 1/4W, 2 Pin, 200mil)
footprint RES_47K_0.25_AXIAL_100MIL (R 1/4W, 2 Pin)
pins: 1, 2

## RES_47R_1/4W_AXIAL
designator R?, comment 47
Carbon Film Leaded Resistor, 0.25W, Vmax 250V; Container: Resistors_TH_Box; Label: 47 - 5%; Price: 0.002; Package: TH; Stock: 100; Manufacturer: https://shopee.vn/Electronic-Components-i.92401456.3956581505; Temperature Range: -55 to +155 degC; ComponentLink1Description: Datasheet; ComponentLink1URL: E:\NEW_DATA\ELECTRONIC_DOCUMENT\DATASHEET\7ec977c91977fd4e95a020bd86d6d6c5.pdf; Value: 47
simulation model RESISTOR (Resistor)
signal-integrity model Res
footprint RES_47_0.25_AXIAL_300MIL (R 1/4W, 2 Pin, 300mil)
footprint RES_47_0.25_AXIAL_200MIL (R 1/4W, 2 Pin, 200mil)
footprint RES_47_0.25_AXIAL_100MIL (R 1/4W, 2 Pin)
pins: 1, 2

## RES_47R_1/8W_0805
designator R?, comment 47
Chip Resistor Surface Mount, 0.125W, Vmax 150V; Container: Resistors_Box; Label: 0805_Pack; Price: 0.003; Package: SMD; Stock: 100; Manufacturer: https://shopee.vn/Set-100con-%C4%90I%E1%BB%86N-TR%E1%BB%9E-D%C3%81N-0805-c%C3%A1c-lo%E1%BA%A1i-t%E1%BB%AB-2-OHM-7-3-OHM-9-4-OHM-7-6-OHM-8-8-OHM-2-12-OHM-...750-OHM-i.633971954.14528730832; Temperature Range: -55 to +155 degC; ComponentLink1Description: Datasheet; ComponentLink1URL: E:\NEW_DATA\ELECTRONIC_DOCUMENT\DATASHEET\RC0805.pdf; Value: 47
simulation model RESISTOR (Resistor)
signal-integrity model Res
footprint RES_47_SMD_0805
pins: 1, 2

## RES_51R_1/8W_0805
designator R?, comment 51
Chip Resistor Surface Mount, 0.125W, Vmax 150V; Container: Resistors_Box; Label: 0805_Pack; Price: 0.003; Package: SMD; Stock: 95; Manufacturer: https://shopee.vn/Set-100con-%C4%90I%E1%BB%86N-TR%E1%BB%9E-D%C3%81N-0805-c%C3%A1c-lo%E1%BA%A1i-t%E1%BB%AB-2-OHM-7-3-OHM-9-4-OHM-7-6-OHM-8-8-OHM-2-12-OHM-...750-OHM-i.633971954.14528730832; Temperature Range: -55 to +155 degC; ComponentLink1Description: Datasheet; ComponentLink1URL: E:\NEW_DATA\ELECTRONIC_DOCUMENT\DATASHEET\RC0805.pdf; Value: 51
simulation model RESISTOR (Resistor)
signal-integrity model Res
footprint RES_51_SMD_0805
pins: 1, 2

## RES_56K_1/8W_0805
designator R?, comment 56K
Chip Resistor Surface Mount, 0.125W, Vmax 150V; Container: Resistors_Box; Label: 0805_Pack; Price: 0.003; Package: SMD; Stock: 89; Manufacturer: https://shopee.vn/Set-100con-%C4%90I%E1%BB%86N-TR%E1%BB%9E-D%C3%81N-0805-c%C3%A1c-lo%E1%BA%A1i-t%E1%BB%AB-1K2-3K-5K6-6K8-...820K-1M-i.633971954.15028739620; Temperature Range: -55 to +155 degC; ComponentLink1Description: Datasheet; ComponentLink1URL: E:\NEW_DATA\ELECTRONIC_DOCUMENT\DATASHEET\RC0805.pdf; Value: 56K
simulation model RESISTOR (Resistor)
signal-integrity model Res
footprint RES_56K_SMD_0805
pins: 1, 2

## RES_75R_1/8W_0805
designator R?, comment 75
Chip Resistor Surface Mount, 0.125W, Vmax 150V; Container: Resistors_Box; Label: 0805_Pack; Price: 0.003; Package: SMD; Stock: 98; Manufacturer: https://shopee.vn/Set-100con-%C4%90I%E1%BB%86N-TR%E1%BB%9E-D%C3%81N-0805-c%C3%A1c-lo%E1%BA%A1i-t%E1%BB%AB-2-OHM-7-3-OHM-9-4-OHM-7-6-OHM-8-8-OHM-2-12-OHM-...750-OHM-i.633971954.14528730832; Temperature Range: -55 to +155 degC; ComponentLink1Description: Datasheet; ComponentLink1URL: E:\NEW_DATA\ELECTRONIC_DOCUMENT\DATASHEET\RC0805.pdf; Value: 75
simulation model RESISTOR (Resistor)
signal-integrity model Res
footprint RES_75_SMD_0805
pins: 1, 2

## RES_100K_1/4W_AXIAL
designator R?, comment 100K
Carbon Film Leaded Resistor, 0.25W, Vmax 250V; Container: Resistors_TH_Box; Label: 100K - 5%; Price: 0.002; Package: TH; Stock: 40; Manufacturer: https://shopee.vn/Electronic-Components-i.92401456.3956581505; Temperature Range: -55 to +155 degC; ComponentLink1Description: Datasheet; ComponentLink1URL: E:\NEW_DATA\ELECTRONIC_DOCUMENT\DATASHEET\7ec977c91977fd4e95a020bd86d6d6c5.pdf; Value: 100K
simulation model RESISTOR (Resistor)
signal-integrity model Res
footprint RES_100K_0.25_AXIAL_100MIL (R 1/4W, 2 Pin)
footprint RES_100K_0.25_AXIAL_200MIL (R 1/4W, 2 Pin, 200mil)
footprint RES_100K_0.25_AXIAL_300MIL (R 1/4W, 2 Pin, 300mil)
pins: 1, 2

## RES_100R_1/2W_2512
designator R?, comment 100
2512 Thick Film Chip Resistor, 0.5W, Vmax 200V; Container: Resistors_Box; Label: 2512-100R 5%; Price: 0.003; Package: SMD; Stock: 46; Manufacturer: https://shopee.vn/Set-50-chip-%C4%90i%E1%BB%87n-T%E1%BB%AD-2512-SMD-5-1W-0.1R-0.01R-0.05R-0.001R-0.33R-1R-0R-10R-100R-2W-0.001-0.01-0.13-0.05-1-0-10-100-ohm-i.778834786.21104749216; Temperature Range: -55 to +155 degC; ComponentLink1Description: Datasheet; ComponentLink1URL: E:\NEW_DATA\ELECTRONIC_DOCUMENT\DATASHEET\2512std.pdf; Value: 100
simulation model RESISTOR (Resistor)
signal-integrity model Res
footprint RES_100_SMD_2512 (Chip Capacitor, Body 3.2x2.5mm, IPC Medium Density)
pins: 1, 2

## RES_120K_1/8W_0805
designator R?, comment 120K
Chip Resistor Surface Mount, 0.125W, Vmax 150V; Container: Resistors_Box; Label: 0805_Pack; Price: 0.003; Package: SMD; Stock: 99; Manufacturer: https://shopee.vn/Set-100con-%C4%90I%E1%BB%86N-TR%E1%BB%9E-D%C3%81N-0805-c%C3%A1c-lo%E1%BA%A1i-t%E1%BB%AB-1K2-3K-5K6-6K8-...820K-1M-i.633971954.15028739620; Temperature Range: -55 to +155 degC; ComponentLink1Description: Datasheet; ComponentLink1URL: E:\NEW_DATA\ELECTRONIC_DOCUMENT\DATASHEET\RC0805.pdf; Value: 120K
simulation model RESISTOR (Resistor)
signal-integrity model Res
footprint RES_120K_SMD_0805
pins: 1, 2

## RES_150R_1/8W_0805
designator R?, comment 150
Chip Resistor Surface Mount, 0.125W, Vmax 150V; Container: Resistors_Box; Label: 0805_Pack; Price: 0.003; Package: SMD; Stock: 66; Manufacturer: https://shopee.vn/Set-100con-%C4%90I%E1%BB%86N-TR%E1%BB%9E-D%C3%81N-0805-c%C3%A1c-lo%E1%BA%A1i-t%E1%BB%AB-2-OHM-7-3-OHM-9-4-OHM-7-6-OHM-8-8-OHM-2-12-OHM-...750-OHM-i.633971954.14528730832; Temperature Range: -55 to +155 degC; ComponentLink1Description: Datasheet; ComponentLink1URL: E:\NEW_DATA\ELECTRONIC_DOCUMENT\DATASHEET\RC0805.pdf; Value: 150
simulation model RESISTOR (Resistor)
signal-integrity model Res
footprint RES_150_SMD_0805
pins: 1, 2

## RES_182K_1/8W_0805
designator R?, comment 182K
Chip Resistor Surface Mount, 0.125W, Vmax 150V; Container: Resistors_Box; Label: 0805_Pack; Price: 0.003; Package: SMD; Stock: 0; Manufacturer: https://item.taobao.com/item.htm?spm=a1z10.3-c-s.w4002-24706531953.20.49916a4bge2MqX&id=606110466676; Temperature Range: -55 to +155 degC; ComponentLink1Description: Datasheet; ComponentLink1URL: E:\NEW_DATA\ELECTRONIC_DOCUMENT\DATASHEET\RC0805.pdf; Value: 182K
simulation model RESISTOR (Resistor)
signal-integrity model Res
footprint RES_182K_SMD_0805
pins: 1, 2

## RES_200K_1/8W_0805
designator R?, comment 200K
Chip Resistor Surface Mount, 0.125W, Vmax 150V; Container: Resistors_Box; Label: 0805_Pack; Price: 0.003; Package: SMD; Stock: 98; Manufacturer: https://shopee.vn/Set-100con-%C4%90I%E1%BB%86N-TR%E1%BB%9E-D%C3%81N-0805-c%C3%A1c-lo%E1%BA%A1i-t%E1%BB%AB-1K2-3K-5K6-6K8-...820K-1M-i.633971954.15028739620; Temperature Range: -55 to +155 degC; ComponentLink1Description: Datasheet; ComponentLink1URL: E:\NEW_DATA\ELECTRONIC_DOCUMENT\DATASHEET\RC0805.pdf; Value: 200K
simulation model RESISTOR (Resistor)
signal-integrity model Res
footprint RES_200K_SMD_0805
pins: 1, 2

## RES_200R_1/4W_AXIAL
designator R?, comment 200
Carbon Film Leaded Resistor, 0.25W, Vmax 250V; Container: Resistors_TH_Box; Label: 200 - 5%; Price: 0.002; Package: TH; Stock: 100; Manufacturer: https://shopee.vn/Electronic-Components-i.92401456.3956581505; Temperature Range: -55 to +155 degC; ComponentLink1Description: Datasheet; ComponentLink1URL: E:\NEW_DATA\ELECTRONIC_DOCUMENT\DATASHEET\7ec977c91977fd4e95a020bd86d6d6c5.pdf; Value: 200
simulation model RESISTOR (Resistor)
signal-integrity model Res
footprint RES_200_0.25_AXIAL_100MIL (R 1/4W, 2 Pin)
footprint RES_200_0.25_AXIAL_200MIL (R 1/4W, 2 Pin, 200mil)
footprint RES_200_0.25_AXIAL_300MIL (R 1/4W, 2 Pin, 300mil)
pins: 1, 2

## RES_220R_5W_AXIAL
designator R?, comment 220
Cement Fixed Resistors Axial Leaded; Container: Resistors_TH_Box; Label: 220R_5W; Price: 0.08; Package: TH; Stock: 4; Manufacturer: https://shopee.vn/%C4%90i%E1%BB%87n-tr%E1%BB%9F-s%E1%BB%A9-5W-5-b%E1%BB%99-5-con-c%C3%A1c-lo%E1%BA%A1i-0.1R-100K-i.101915397.11507078815; Temperature Range: -55 to +155 degC; ComponentLink1Description: Datasheet; ComponentLink1URL: E:\NEW_DATA\ELECTRONIC_DOCUMENT\DATASHEET\3178893.pdf; Value: 220
simulation model RESISTOR (Resistor)
signal-integrity model Res
footprint RES_220_5W_AXIAL_1000MIL (R5W , 2 pin, 400 x 950mil)
pins: 1, 2

## RES_240K_1/8W_0805
designator R?, comment 240K
Chip Resistor Surface Mount, 0.125W, Vmax 150V; Container: Resistors_Box; Label: 0805_Pack; Value: 51; Price: 0.003; Package: SMD; Stock: 95; Manufacturer: https://shopee.vn/Set-100con-%C4%90I%E1%BB%86N-TR%E1%BB%9E-D%C3%81N-0805-c%C3%A1c-lo%E1%BA%A1i-t%E1%BB%AB-2-OHM-7-3-OHM-9-4-OHM-7-6-OHM-8-8-OHM-2-12-OHM-...750-OHM-i.633971954.14528730832; Temperature Range: -55 to +155 degC; ComponentLink1Description: Datasheet; ComponentLink1URL: E:\NEW_DATA\ELECTRONIC_DOCUMENT\DATASHEET\RC0805.pdf
simulation model RESISTOR (Resistor)
signal-integrity model Res
footprint RES_240K_SMD_0805
pins: 1, 2

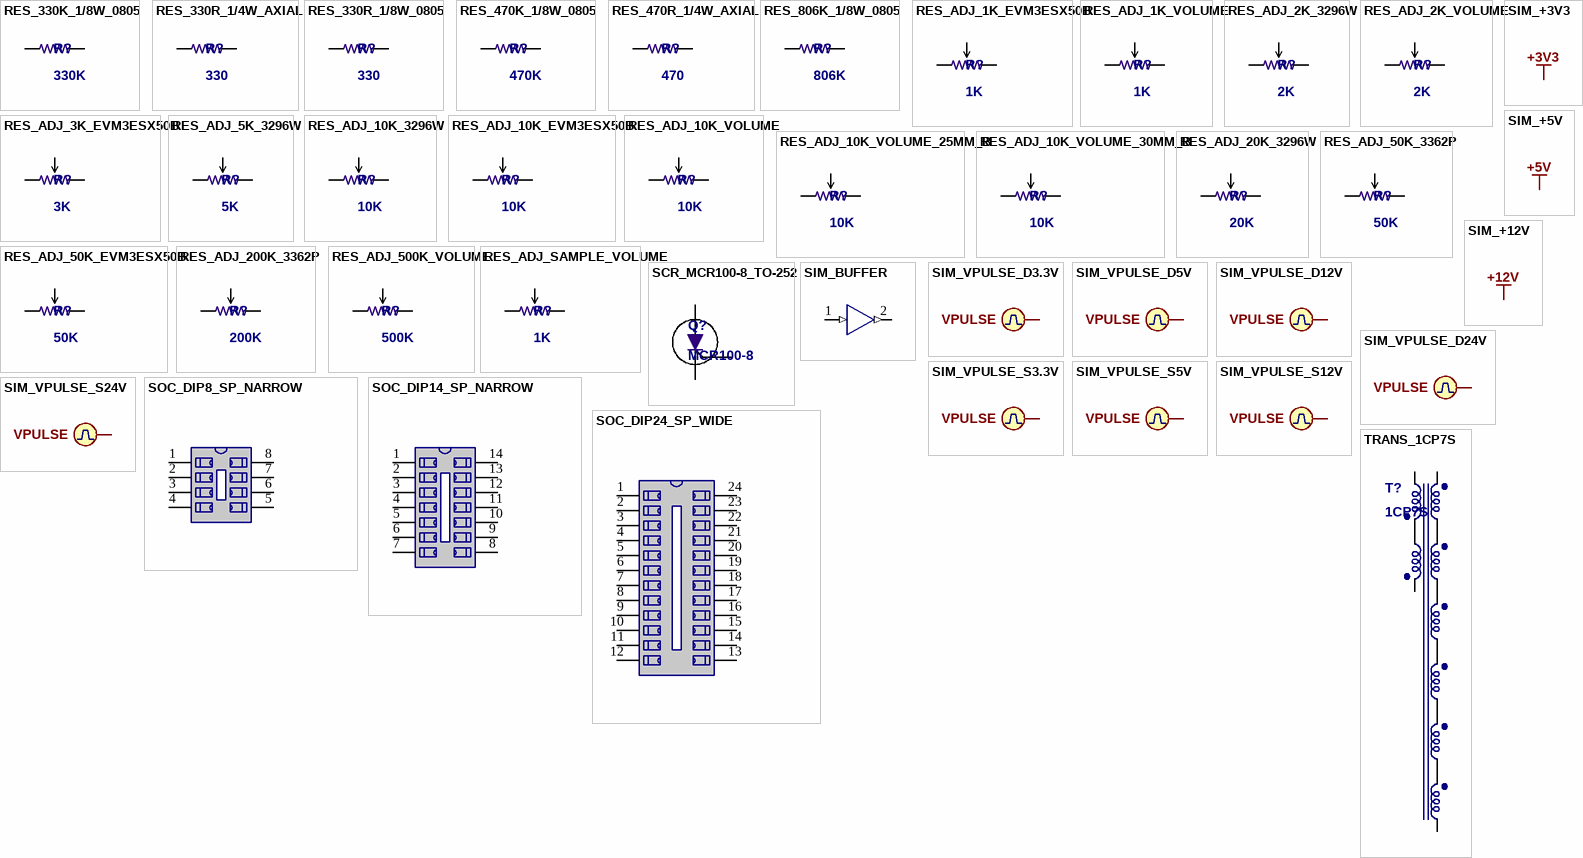
[diagram p9: symbols RES_330K_1/8W_0805 to TRANS_1CP7S]

## RES_330K_1/8W_0805
designator R?, comment 330K
Chip Resistor Surface Mount, 0.125W, Vmax 150V; Container: Resistors_Box; Label: 0805_Pack; Price: 0.003; Package: SMD; Stock: 97; Manufacturer: https://shopee.vn/Set-100con-%C4%90I%E1%BB%86N-TR%E1%BB%9E-D%C3%81N-0805-c%C3%A1c-lo%E1%BA%A1i-t%E1%BB%AB-1K2-3K-5K6-6K8-...820K-1M-i.633971954.15028739620; Temperature Range: -55 to +155 degC; ComponentLink1Description: Datasheet; ComponentLink1URL: E:\NEW_DATA\ELECTRONIC_DOCUMENT\DATASHEET\RC0805.pdf; Value: 330K
simulation model RESISTOR (Resistor)
signal-integrity model Res
footprint RES_330K_SMD_0805
pins: 1, 2

## RES_330R_1/4W_AXIAL
designator R?, comment 330
Carbon Film Leaded Resistor, 0.25W, Vmax 250V; Container: Resistors_TH_Box; Label: 330R - 5%; Price: 0.002; Package: TH; Stock: 40; Manufacturer: https://shopee.vn/Electronic-Components-i.92401456.3956581505; Temperature Range: -55 to +155 degC; ComponentLink1Description: Datasheet; ComponentLink1URL: E:\NEW_DATA\ELECTRONIC_DOCUMENT\DATASHEET\7ec977c91977fd4e95a020bd86d6d6c5.pdf; Value: 330
simulation model RESISTOR (Resistor)
signal-integrity model Res
footprint RES_330_0.25_AXIAL_100MIL (R 1/4W, 2 Pin)
footprint RES_330_0.25_AXIAL_200MIL (R 1/4W, 2 Pin, 200mil)
footprint RES_330_0.25_AXIAL_300MIL (R 1/4W, 2 Pin, 300mil)
pins: 1, 2

## RES_330R_1/8W_0805
designator R?, comment 330
Chip Resistor Surface Mount, 0.125W, Vmax 150V; Container: Resistors_Box; Label: 0805_Pack; Price: 0.003; Package: SMD; Stock: 70; Manufacturer: https://shopee.vn/Set-100con-%C4%90I%E1%BB%86N-TR%E1%BB%9E-D%C3%81N-0805-c%C3%A1c-lo%E1%BA%A1i-t%E1%BB%AB-2-OHM-7-3-OHM-9-4-OHM-7-6-OHM-8-8-OHM-2-12-OHM-...750-OHM-i.633971954.14528730832; Temperature Range: -55 to +155 degC; ComponentLink1Description: Datasheet; ComponentLink1URL: E:\NEW_DATA\ELECTRONIC_DOCUMENT\DATASHEET\RC0805.pdf; Value: 330
simulation model RESISTOR (Resistor)
signal-integrity model Res
footprint RES_330_SMD_0805
pins: 1, 2

## RES_470K_1/8W_0805
designator R?, comment 470K
Chip Resistor Surface Mount, 0.125W, Vmax 150V; Container: Resistors_Box; Label: 0805_Pack; Price: 0.003; Package: SMD; Stock: 97; Manufacturer: https://shopee.vn/Set-100con-%C4%90I%E1%BB%86N-TR%E1%BB%9E-D%C3%81N-0805-c%C3%A1c-lo%E1%BA%A1i-t%E1%BB%AB-1K2-3K-5K6-6K8-...820K-1M-i.633971954.15028739620; Temperature Range: -55 to +155 degC; ComponentLink1Description: Datasheet; ComponentLink1URL: E:\NEW_DATA\ELECTRONIC_DOCUMENT\DATASHEET\RC0805.pdf; Value: 470K
simulation model RESISTOR (Resistor)
signal-integrity model Res
footprint RES_470K_SMD_0805
pins: 1, 2

## RES_470R_1/4W_AXIAL
designator R?, comment 470
Carbon Film Leaded Resistor, 0.25W, Vmax 250V; Container: Resistors_TH_Box; Label: 470 - 1%; Price: 0.002; Package: TH; Stock: 70; Manufacturer: https://shopee.vn/Electronic-Components-i.92401456.3956581505; Temperature Range: -55 to +155 degC; ComponentLink1Description: Datasheet; ComponentLink1URL: E:\NEW_DATA\ELECTRONIC_DOCUMENT\DATASHEET\7ec977c91977fd4e95a020bd86d6d6c5.pdf; Value: 470
simulation model RESISTOR (Resistor)
signal-integrity model Res
footprint RES_470_0.25_AXIAL_300MIL (R 1/4W, 2 Pin, 300mil)
footprint RES_470_0.25_AXIAL_200MIL (R 1/4W, 2 Pin, 200mil)
footprint RES_470_0.25_AXIAL_100MIL (R 1/4W, 2 Pin)
pins: 1, 2

## RES_806K_1/8W_0805
designator R?, comment 806K
Chip Resistor Surface Mount, 0.125W, Vmax 150V; Container: Resistors_Box; Label: 0805_Pack; Price: 0.003; Package: SMD; Stock: 0; Manufacturer: https://item.taobao.com/item.htm?spm=a1z10.3-c-s.w4002-24706531953.12.172c6a4bmJDDXO&id=606122306612; Temperature Range: -55 to +155 degC; ComponentLink1Description: Datasheet; ComponentLink1URL: E:\NEW_DATA\ELECTRONIC_DOCUMENT\DATASHEET\RC0805.pdf; Value: 806K
simulation model RESISTOR (Resistor)
signal-integrity model Res
footprint RES_806K_SMD_0805
pins: 1, 2

## RES_ADJ_1K_EVM3ESX50B
designator R?, comment 1K
3mm Square Trimmer Potentiometers, Vmax 50V, Pmax 0.15W; Container: Resistors_Box; Label: EVM3ESX50B33 - 1K; Set Position: 0; Price: 0.067; Package: SMD; Stock: 10; Manufacturer: https://shopee.vn/Set-10-%C4%90i%E1%BB%87n-Tr%E1%BB%9F-3*3-Chuy%C3%AAn-D%E1%BB%A5ng-SMD-3X3-100-500-1K-2K-5K-10K-20K-50K-100K-1M-ohm-i.778834786.20705406854; Temperature Range: -40 to +100 degC; ComponentLink1Description: Datasheet; ComponentLink1URL: E:\NEW_DATA\ELECTRONIC_DOCUMENT\DATASHEET\EVM3ESX50Bxx_Panasonic.pdf; Value: 1K
footprint RES_ADJ_EVM3ESX50B (Variable Resistor)
simulation model RES_ADJ
pins: 1, 2, 3

## RES_ADJ_1K_VOLUME
designator R?, comment 1K
ROTARY POTENTIOMETER (VOLUME CONTROL), Vmax 200V; Container: Resistors_Box; Label: VAR_RES; Set Position: 0; Price: 0.16; Package: TH; Stock: 2; Manufacturer: https://shopee.vn/-3-chi%E1%BA%BFc-(F32)-Bi%E1%BA%BFn-tr%E1%BB%9F-Volume-%C4%91%C6%A1n-(1K-10K-100K)-Ch%E1%BB%8Dn-Lo%E1%BA%A1i--i.29971197.1601313054?sp_atk=a965a421-711c-4c2d-8365-31f56b99aecb&xptdk=a965a421-711c-4c2d-8365-31f56b99aecb; Temperature Range: -40 to +100 degC; ComponentLink1Description: Datasheet; ComponentLink1URL: E:\NEW_DATA\ELECTRONIC_DOCUMENT\DATASHEET\588.pdf; Value: 1K
footprint RES_ADJ_VOLUME
simulation model RES_ADJ
pins: 1, 2, 3

## RES_ADJ_2K_3296W
designator R?, comment 2K
3296 - 3/8 ˝Square Trimpot ® Trimming Potentiometer, Vmax 500V; Container: Resistors_Box; Label: Fine_Var_Res; Set Position: 0; Price: 0.1; Package: SMD; Stock: 2; Temperature Range: -55 to +155 degC; ComponentLink1Description: Datasheet; ComponentLink1URL: E:\NEW_DATA\ELECTRONIC_DOCUMENT\DATASHEET\3296.pdf; Value: 2K
footprint RES_ADJ_3296W (Variable Resistor)
simulation model RES_ADJ
pins: 1, 2, 3

## RES_ADJ_2K_VOLUME
designator R?, comment 2K
ROTARY POTENTIOMETER (VOLUME CONTROL), Vmax 200V; Container: Resistors_Box; Label: VAR_RES; Set Position: 0; Price: 0.16; Package: TH; Stock: 1; Manufacturer: https://shopee.vn/-3-chi%E1%BA%BFc-(F32)-Bi%E1%BA%BFn-tr%E1%BB%9F-Volume-%C4%91%C6%A1n-(1K-10K-100K)-Ch%E1%BB%8Dn-Lo%E1%BA%A1i--i.29971197.1601313054?sp_atk=a965a421-711c-4c2d-8365-31f56b99aecb&xptdk=a965a421-711c-4c2d-8365-31f56b99aecb; Temperature Range: -40 to +100 degC; ComponentLink1Description: Datasheet; ComponentLink1URL: E:\NEW_DATA\ELECTRONIC_DOCUMENT\DATASHEET\588.pdf; Value: 2K
footprint RES_ADJ_VOLUME
simulation model RES_ADJ
pins: 1, 2, 3

## RES_ADJ_3K_EVM3ESX50B
designator R?, comment 3K
3mm Square Trimmer Potentiometers, Vmax 50V, Pmax 0.15W; Container: Resistors_Box; Label: EVM3ESX50B33 - 3K; Set Position: 0; Price: 0.067; Package: SMD; Stock: 10; Manufacturer: https://shopee.vn/Set-10-%C4%90i%E1%BB%87n-Tr%E1%BB%9F-3*3-Chuy%C3%AAn-D%E1%BB%A5ng-SMD-3X3-100-500-1K-2K-5K-10K-20K-50K-100K-1M-ohm-i.778834786.20705406854; Temperature Range: -40 to +100 degC; ComponentLink1Description: Datasheet; ComponentLink1URL: E:\NEW_DATA\ELECTRONIC_DOCUMENT\DATASHEET\EVM3ESX50Bxx_Panasonic.pdf; Value: 3K
footprint RES_ADJ_EVM3ESX50B (Variable Resistor)
simulation model RES_ADJ
pins: 1, 2, 3

## RES_ADJ_5K_3296W
designator R?, comment 5K
3296 - 3/8 ˝Square Trimpot ® Trimming Potentiometer, Vmax 500V; Container: Resistors_Box; Label: Fine_Var_Res; Set Position: 0; Price: 0.1; Package: SMD; Stock: 1; Temperature Range: -55 to +155 degC; ComponentLink1Description: Datasheet; ComponentLink1URL: E:\NEW_DATA\ELECTRONIC_DOCUMENT\DATASHEET\3296.pdf; Value: 5K
footprint RES_ADJ_3296W (Variable Resistor)
simulation model RES_ADJ
pins: 1, 2, 3

## RES_ADJ_10K_3296W
designator R?, comment 10K
3296 - 3/8 ˝Square Trimpot ® Trimming Potentiometer, Vmax 500V; Container: Resistors_Box; Label: Fine_Var_Res; Set Position: 0; Price: 0.1; Package: SMD; Stock: 3; Temperature Range: -55 to +155 degC; ComponentLink1Description: Datasheet; ComponentLink1URL: E:\NEW_DATA\ELECTRONIC_DOCUMENT\DATASHEET\3296.pdf; Value: 10K
footprint RES_ADJ_3296W (Variable Resistor)
simulation model RES_ADJ
pins: 1, 2, 3